# Altium schematic symbol library MSP430F20x2.SchLib: 1 symbol
Pins are listed as number, name and electrical type; pins without a type are passive.

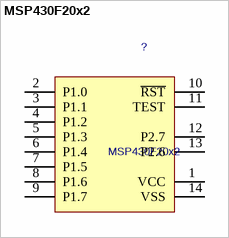
[diagram p0: symbol MSP430F20x2]

## MSP430F20x2
designator ?
Value: *
footprint PW014 (Shrink Small Outline; 14 Leads; Body Width 4.4 mm; Pitch 0.65 mm)
pins: 1 VCC (power), 2 P1.0, 3 P1.1, 4 P1.2, 5 P1.3, 6 P1.4, 7 P1.5, 8 P1.6, 9 P1.7, 10 ~{RST}, 11 TEST, 12 P2.7, 13 P2.6, 14 VSS (power)